# Altium footprint library EISI.PcbLib: 695 footprints (part 38 of 44)
Each footprint in its own frame and in the unit in brackets; x right, y up, seen from the top. Pads: shape width x height; smd on the part's side, far side on the other; paste and mask are expansions set on the pad; w line width, h text height; cw(c..) or ccw(c..) is an arc to the next point about the centre after c.
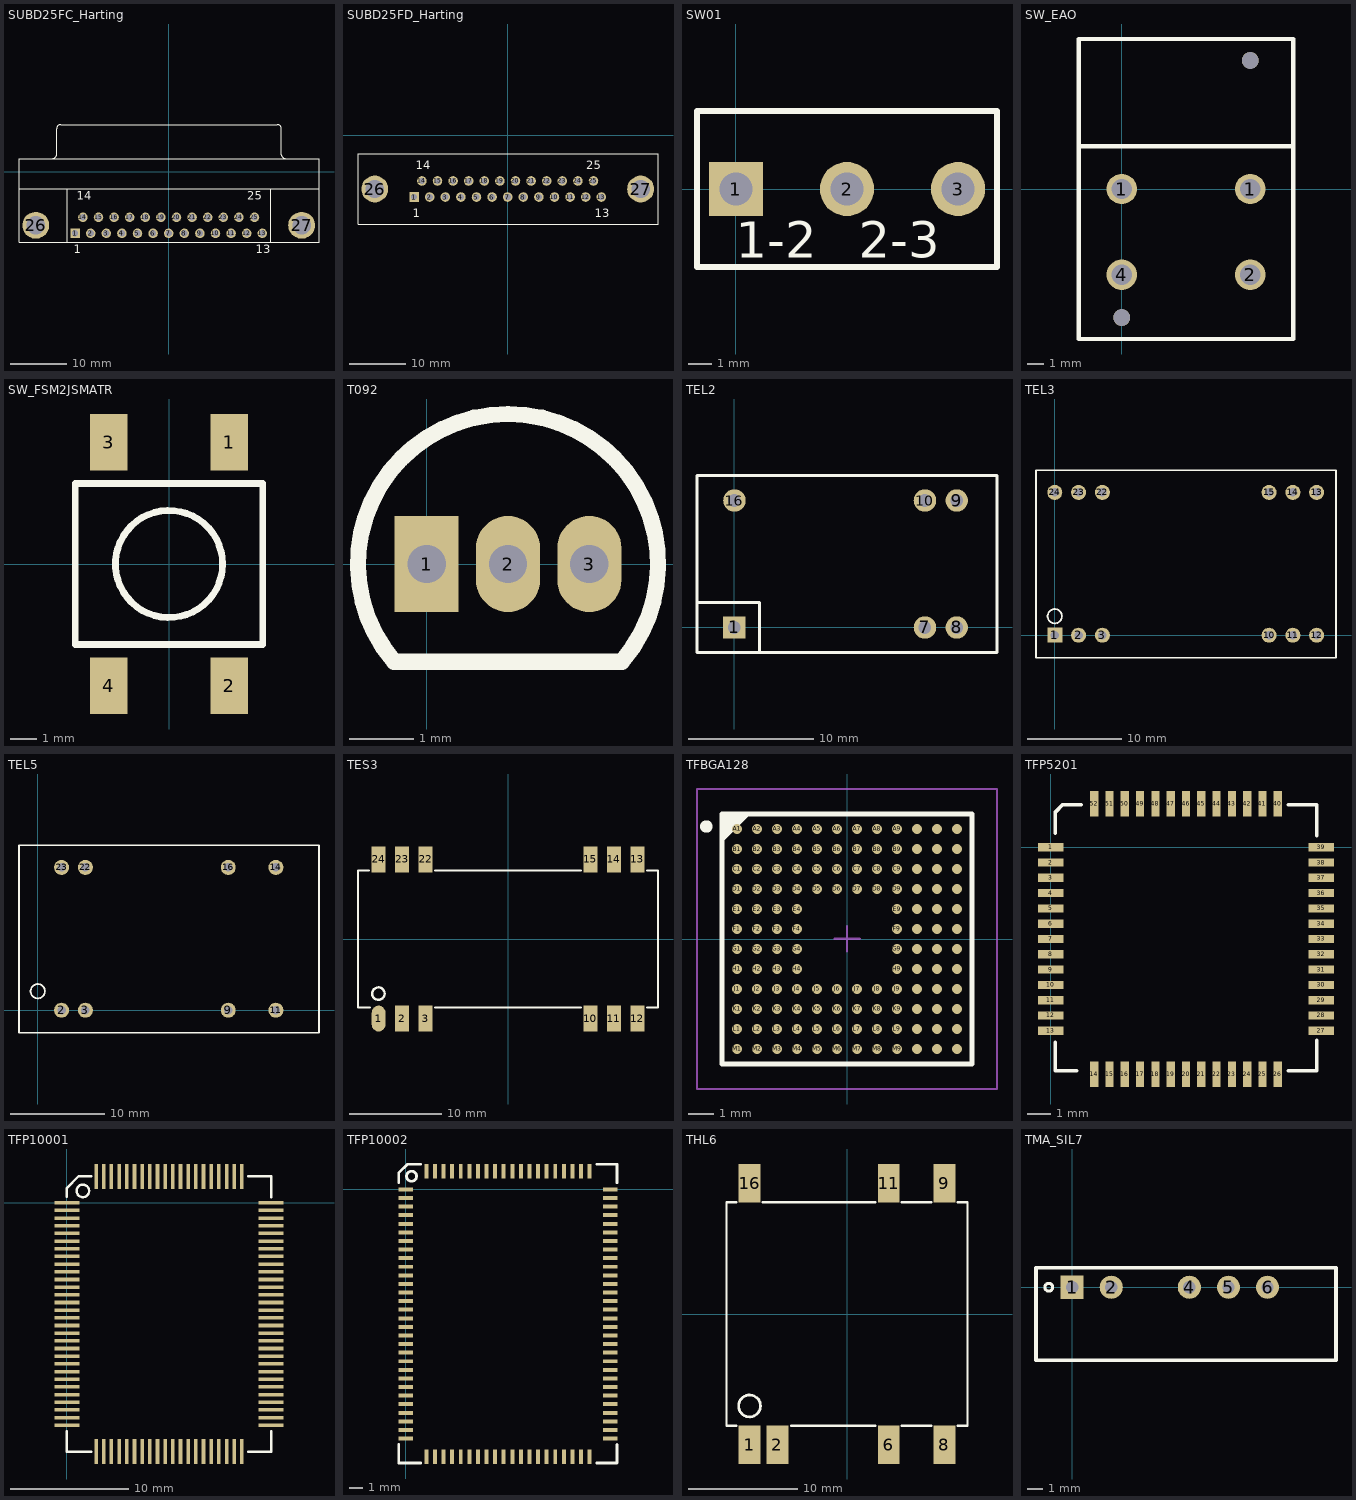
[diagram p37: the footprints below, top view; thin cyan lines are the x and y axes]

## SUBD25FC_Harting [mm] "Connector; D Subminiature; 25 Position; Right Angle; Pitch 1.385 mm"
height 13.6
pads (27):
  rect 1.69x1.69 hole 1.09: 1(-16.566,-10.92)
  round 1.69 hole 1.09: 2(-13.805,-10.92) 3(-11.044,-10.92) 4(-8.283,-10.92) 5(-5.522,-10.92) 6(-2.761,-10.92) 7(0,-10.92) 8(2.761,-10.92) 9(5.522,-10.92) 10(8.283,-10.92) 11(11.044,-10.92) 12(13.805,-10.92) 13(16.566,-10.92) 14(-15.185,-8.08) 15(-12.424,-8.08) 16(-9.663,-8.08) 17(-6.902,-8.08) 18(-4.141,-8.08) 19(-1.38,-8.08) 20(1.381,-8.08) 21(4.142,-8.08) 22(6.903,-8.08) 23(9.664,-8.08) 24(12.425,-8.08) 25(15.186,-8.08)
  round 4.76 hole 3.26: 26(-23.526,-9.5) 27(23.526,-9.5)
TopOverlay:
  lines w0.2: -26.496,-3 26.604,-3 ; -20.541,2.325 ccw(c-20.541,3.02) -19.846,3.02 -19.846,7.625 ; -19.841,7.625 cw(c-19.146,7.625) -19.146,8.32 19.254,8.32 cw(c19.254,7.625) 19.949,7.625 ; -17.946,-12.5 -17.946,-3 ; 18.054,-12.5 18.054,-3 ; 19.954,7.625 19.954,3.02 ccw(c20.649,3.02) 20.649,2.325 ; -26.496,-12.5 26.604,-12.5 26.604,2.32 -26.496,2.32 -26.496,-12.5
  text "1" at -16.816,-14.475 h1.5
  text "13" at 15.441,-14.475 h1.5
  text "14" at -16.31,-4.975 h1.5
  text "25" at 13.936,-4.975 h1.5

## SUBD25FD_Harting [mm] "Connector; D Subminiature; 25 Position; Vertical; Pitch 1.385 mm"
height 13.6
pads (27):
  rect 1.69x1.69 hole 1.09: 1(-16.566,-10.92)
  round 1.69 hole 1.09: 2(-13.805,-10.92) 3(-11.044,-10.92) 4(-8.283,-10.92) 5(-5.522,-10.92) 6(-2.761,-10.92) 7(0,-10.92) 8(2.761,-10.92) 9(5.522,-10.92) 10(8.283,-10.92) 11(11.044,-10.92) 12(13.805,-10.92) 13(16.566,-10.92) 14(-15.185,-8.08) 15(-12.424,-8.08) 16(-9.663,-8.08) 17(-6.902,-8.08) 18(-4.141,-8.08) 19(-1.38,-8.08) 20(1.381,-8.08) 21(4.142,-8.08) 22(6.903,-8.08) 23(9.664,-8.08) 24(12.425,-8.08) 25(15.186,-8.08)
  round 4.76 hole 3.26: 26(-23.526,-9.5) 27(23.526,-9.5)
TopOverlay:
  lines w0.2: -26.496,-15.75 26.604,-15.75 26.604,-3.25 -26.496,-3.25 -26.496,-15.75
  text "1" at -16.816,-14.475 h1.5
  text "13" at 15.441,-14.475 h1.5
  text "14" at -16.3,-6 h1.5
  text "25" at 13.9,-6 h1.5

## SW01 [mm] "Commutateur CK 1101-M2"
pads (3):
  rect 2.3x2.3 hole 1.4: 1(0,0)
  round 2.3 hole 1.4: 2(4.7,0) 3(9.4,0)
TopOverlay:
  lines w0.254: -1.65,-3.3 11.05,-3.3 11.05,3.3 -1.65,3.3 -1.65,-3.3
  text "2-3" at 5.2,-2.9 h1.52
  text "1-2" at 0,-2.9 h1.52

## SW_EAO [mm] "Bouton poussoir EAO"
height 12
pads (6):
  round 1.8 hole 1.2: 1(0,0) 1(7.62,0) 2(7.62,-5.08) 4(0,-5.08)
  round 1 hole 1 unplated: ""(0,-7.62) ""(7.62,7.62)
TopOverlay:
  lines w0.25: -2.54,2.54 10.16,2.54 ; -2.54,-8.89 -2.54,8.89 10.16,8.89 10.16,-8.89 -2.54,-8.89

## SW_FSM2JSMATR [mm] "FSM2JSMATR"
height 4
pads (4):
  rect 1.4x2.1 smd: 1(2.25,4.55) 2(2.25,-4.55) 3(-2.25,4.55) 4(-2.25,-4.55)
TopOverlay:
  circle w0.254: c0,0 r2
  lines w0.254: -3.5,-3 3.5,-3 3.5,3 -3.5,3 -3.5,-3

## T092 [mm]
pads (3):
  rect 1x1.5 hole 0.6: 1(0,0)
  oval 1x1.5 hole 0.6: 2(1.27,0) 3(2.54,0)
TopOverlay:
  lines w0.254: -0.508,-1.524 cw(c1.27,0) 3.048,-1.524 -0.508,-1.524

## TEL2 [mm] "Boîtier TEL 2 DC/DC Traco"
height 7.6
pads (6):
  rect 1.8x1.8 hole 1: 1(0,0)
  round 1.8 hole 1: 7(15.24,0) 8(17.78,0) 9(17.78,10.16) 10(15.24,10.16) 16(0,10.16)
TopOverlay:
  lines w0.254: -3,2 2,2 2,-2 ; -3,-2 -3,12.16 21,12.16 21,-2 -3,-2

## TEL3 [mm] "DC/DC TEL3 dual outputs"
pads (12):
  rect 1.6x1.6 hole 0.9: 1(0,0)
  round 1.6 hole 0.9: 2(2.54,0) 3(5.08,0) 10(22.86,0) 11(25.4,0) 12(27.94,0) 13(27.94,15.24) 14(25.4,15.24) 15(22.86,15.24) 22(5.08,15.24) 23(2.54,15.24) 24(0,15.24)
TopOverlay:
  circle w0.2: c0,2.032 r0.762
  lines w0.2: -2,-2.4 30,-2.4 30,17.6 -2,17.6 -2,-2.4

## TEL5 [mm] "DC/DC TEL5"
height 10
pads (8):
  round 1.6 hole 0.9: 2(2.54,0) 3(5.08,0) 9(20.32,0) 11(25.4,0) 14(25.4,15.24) 16(20.32,15.24) 22(5.08,15.24) 23(2.54,15.24)
TopOverlay:
  circle w0.2: c0,2.032 r0.762
  lines w0.2: -2,-2.4 30,-2.4 30,17.6 -2,17.6 -2,-2.4

## TES3 [mm] "DC/DC Traco 3W SMD"
height 10.2
pads (12):
  oval 1.5x2.8 smd: 1(-13.97,-8.6)
  rect 1.5x2.8 smd: 2(-11.43,-8.6) 3(-8.89,-8.6) 10(8.89,-8.6) 11(11.43,-8.6) 12(13.97,-8.6) 13(13.97,8.6) 14(11.43,8.6) 15(8.89,8.6) 22(-8.89,8.6) 23(-11.43,8.6) 24(-13.97,8.6)
TopOverlay:
  circle w0.254: c-14,-5.9 r0.671
  lines w0.2: -15,7.4 -16.2,7.4 -16.2,-7.4 -14.9,-7.4 ; -7.9,-7.4 7.9,-7.4 ; -7.9,7.4 7.9,7.4 ; 15,-7.4 16.2,-7.4 16.2,7.4 15,7.4

## TFBGA128 [mm] "BGA, 128-Leads, Body 10x10mm, Pitch 0.8mm"
height 1.2
pads (128):
  round 0.4 smd: A1(-4.4,4.4) A2(-3.6,4.4) A3(-2.8,4.4) A4(-2,4.4) A5(-1.2,4.4) A6(-0.4,4.4) A7(0.4,4.4) A8(1.2,4.4) A9(2,4.4) A10(2.8,4.4) A11(3.6,4.4) A12(4.4,4.4) B1(-4.4,3.6) B2(-3.6,3.6) B3(-2.8,3.6) B4(-2,3.6) B5(-1.2,3.6) B6(-0.4,3.6) B7(0.4,3.6) B8(1.2,3.6) B9(2,3.6) B10(2.8,3.6) B11(3.6,3.6) B12(4.4,3.6) C1(-4.4,2.8) C2(-3.6,2.8) C3(-2.8,2.8) C4(-2,2.8) C5(-1.2,2.8) C6(-0.4,2.8) C7(0.4,2.8) C8(1.2,2.8) C9(2,2.8) C10(2.8,2.8) C11(3.6,2.8) C12(4.4,2.8) D1(-4.4,2) D2(-3.6,2) D3(-2.8,2) D4(-2,2) D5(-1.2,2) D6(-0.4,2) D7(0.4,2) D8(1.2,2) D9(2,2) D10(2.8,2) D11(3.6,2) D12(4.4,2) E1(-4.4,1.2) E2(-3.6,1.2) E3(-2.8,1.2) E4(-2,1.2) E9(2,1.2) E10(2.8,1.2) E11(3.6,1.2) E12(4.4,1.2) F1(-4.4,0.4) F2(-3.6,0.4) F3(-2.8,0.4) F4(-2,0.4) F9(2,0.4) F10(2.8,0.4) F11(3.6,0.4) F12(4.4,0.4) G1(-4.4,-0.4) G2(-3.6,-0.4) G3(-2.8,-0.4) G4(-2,-0.4) G9(2,-0.4) G10(2.8,-0.4) G11(3.6,-0.4) G12(4.4,-0.4) H1(-4.4,-1.2) H2(-3.6,-1.2) H3(-2.8,-1.2) H4(-2,-1.2) H9(2,-1.2) H10(2.8,-1.2) H11(3.6,-1.2) H12(4.4,-1.2) J1(-4.4,-2) J2(-3.6,-2) J3(-2.8,-2) J4(-2,-2) J5(-1.2,-2) J6(-0.4,-2) J7(0.4,-2) J8(1.2,-2) J9(2,-2) J10(2.8,-2) J11(3.6,-2) J12(4.4,-2) K1(-4.4,-2.8) K2(-3.6,-2.8) K3(-2.8,-2.8) K4(-2,-2.8) K5(-1.2,-2.8) K6(-0.4,-2.8) K7(0.4,-2.8) K8(1.2,-2.8) K9(2,-2.8) K10(2.8,-2.8) K11(3.6,-2.8) K12(4.4,-2.8) L1(-4.4,-3.6) L2(-3.6,-3.6) L3(-2.8,-3.6) L4(-2,-3.6) L5(-1.2,-3.6) L6(-0.4,-3.6) L7(0.4,-3.6) L8(1.2,-3.6) L9(2,-3.6) L10(2.8,-3.6) L11(3.6,-3.6) L12(4.4,-3.6) M1(-4.4,-4.4) M2(-3.6,-4.4) M3(-2.8,-4.4) M4(-2,-4.4) M5(-1.2,-4.4) M6(-0.4,-4.4) M7(0.4,-4.4) M8(1.2,-4.4) M9(2,-4.4) M10(2.8,-4.4) M11(3.6,-4.4) M12(4.4,-4.4)
TopOverlay:
  circle w0.25: c-5.625,4.5 r0.125
  region: -4,5 -5,4 -5,5
  lines w0.2: -5,4 -4,5 ; -5,-5 -5,5 5,5 5,-5 -5,-5
Mechanical15:
  lines w0.1: -0.5,0 0.5,0 ; 0,-0.5 0,0.5 ; -6,-6 -6,6 6,6 6,-6 -6,-6

## TFP5201 [mm]
pads (52):
  rect 1.1x0.35 smd: 1(0,0) 2(0,-0.65) 3(0,-1.3) 4(0,-1.95) 5(0,-2.6) 6(0,-3.25) 7(0,-3.9) 8(0,-4.55) 9(0,-5.2) 10(0,-5.85) 11(0,-6.5) 12(0,-7.15) 13(0,-7.8) 27(11.5,-7.8) 28(11.5,-7.15) 29(11.5,-6.5) 30(11.5,-5.85) 31(11.5,-5.2) 32(11.5,-4.55) 33(11.5,-3.9) 34(11.5,-3.25) 35(11.5,-2.6) 36(11.5,-1.95) 37(11.5,-1.3) 38(11.5,-0.65) 39(11.5,0)
  rect 0.35x1.1 smd: 14(1.85,-9.65) 15(2.5,-9.65) 16(3.15,-9.65) 17(3.8,-9.65) 18(4.45,-9.65) 19(5.1,-9.65) 20(5.75,-9.65) 21(6.4,-9.65) 22(7.05,-9.65) 23(7.7,-9.65) 24(8.35,-9.65) 25(9,-9.65) 26(9.65,-9.65) 40(9.65,1.85) 41(9,1.85) 42(8.35,1.85) 43(7.7,1.85) 44(7.05,1.85) 45(6.4,1.85) 46(5.75,1.85) 47(5.1,1.85) 48(4.45,1.85) 49(3.8,1.85) 50(3.15,1.85) 51(2.5,1.85) 52(1.85,1.85)
TopOverlay:
  lines w0.152: 0.2,-8.3 0.2,-9.5 1.1,-9.5 ; 0.2,0.6 0.2,1.5 0.5,1.8 1.3,1.8 ; 10.1,-9.5 11.3,-9.5 11.3,-8.2 ; 10.1,1.8 11.3,1.8 11.3,0.5
TopSolder:
  rectangle: 1.6,1.225 9.9,2.475
  rectangle: 1.6,-10.275 9.9,-9.025
  rectangle: 10.875,-8.05 12.125,0.25
  rectangle: -0.625,-8.05 0.625,0.25

## TFP10001 [mil]
pads (100):
  rect 83x12 smd: 1(0,0) 2(0,-25.59) 3(0,-51.18) 4(0,-76.77) 5(0,-102.36) 6(0,-127.95) 7(0,-153.54) 8(0,-179.13) 9(0,-204.72) 10(0,-230.31) 11(0,-255.91) 12(0,-281.5) 13(0,-307.09) 14(0,-332.68) 15(0,-358.27) 16(0,-383.86) 17(0,-409.45) 18(0,-435.04) 19(0,-460.63) 20(0,-486.22) 21(0,-511.81) 22(0,-537.4) 23(0,-562.99) 24(0,-588.58) 25(0,-614.17) 26(0,-639.76) 27(0,-665.35) 28(0,-690.94) 29(0,-716.54) 30(0,-742.13) 51(681.1,-742.13) 52(681.1,-716.54) 53(681.1,-690.94) 54(681.1,-665.35) 55(681.1,-639.76) 56(681.1,-614.17) 57(681.1,-588.58) 58(681.1,-562.99) 59(681.1,-537.4) 60(681.1,-511.81) 61(681.1,-486.22) 62(681.1,-460.63) 63(681.1,-435.04) 64(681.1,-409.45) 65(681.1,-383.86) 66(681.1,-358.27) 67(681.1,-332.68) 68(681.1,-307.09) 69(681.1,-281.5) 70(681.1,-255.91) 71(681.1,-230.31) 72(681.1,-204.72) 73(681.1,-179.13) 74(681.1,-153.54) 75(681.1,-127.95) 76(681.1,-102.36) 77(681.1,-76.77) 78(681.1,-51.18) 79(681.1,-25.59) 80(681.1,0)
  rect 12x83 smd: 31(97.44,-829.72) 32(123.03,-829.72) 33(148.62,-829.72) 34(174.21,-829.72) 35(199.8,-829.72) 36(225.39,-829.72) 37(250.98,-829.72) 38(276.57,-829.72) 39(302.17,-829.72) 40(327.76,-829.72) 41(353.35,-829.72) 42(378.94,-829.72) 43(404.53,-829.72) 44(430.12,-829.72) 45(455.71,-829.72) 46(481.3,-829.72) 47(506.89,-829.72) 48(532.48,-829.72) 49(558.07,-829.72) 50(583.66,-829.72) 81(583.66,87.6) 82(558.07,87.6) 83(532.48,87.6) 84(506.89,87.6) 85(481.3,87.6) 86(455.71,87.6) 87(430.12,87.6) 88(404.53,87.6) 89(378.94,87.6) 90(353.35,87.6) 91(327.76,87.6) 92(302.17,87.6) 93(276.57,87.6) 94(250.98,87.6) 95(225.39,87.6) 96(199.8,87.6) 97(174.21,87.6) 98(148.62,87.6) 99(123.03,87.6) 100(97.44,87.6)
TopOverlay:
  circle w8: c53.15,39.37 r20.93
  lines w7.87: 0,-762 0,-830.71 80.71,-830.71 ; 0,19.68 0,49.21 39.37,88.58 80.71,88.58 ; 604.33,-830.71 681.1,-830.71 681.1,-761.81 ; 604.33,88.58 681.1,88.58 681.1,17.72

## TFP10002 [mm]
pads (100):
  rect 1.1x0.3 smd: 1(0,0) 2(0,-0.65) 3(0,-1.3) 4(0,-1.95) 5(0,-2.6) 6(0,-3.25) 7(0,-3.9) 8(0,-4.55) 9(0,-5.2) 10(0,-5.85) 11(0,-6.5) 12(0,-7.15) 13(0,-7.8) 14(0,-8.45) 15(0,-9.1) 16(0,-9.75) 17(0,-10.4) 18(0,-11.05) 19(0,-11.7) 20(0,-12.35) 21(0,-13) 22(0,-13.65) 23(0,-14.3) 24(0,-14.95) 25(0,-15.6) 26(0,-16.25) 27(0,-16.9) 28(0,-17.55) 29(0,-18.2) 30(0,-18.85) 51(15.5,-18.85) 52(15.5,-18.2) 53(15.5,-17.55) 54(15.5,-16.9) 55(15.5,-16.25) 56(15.5,-15.6) 57(15.5,-14.95) 58(15.5,-14.3) 59(15.5,-13.65) 60(15.5,-13) 61(15.5,-12.35) 62(15.5,-11.7) 63(15.5,-11.05) 64(15.5,-10.4) 65(15.5,-9.75) 66(15.5,-9.1) 67(15.5,-8.45) 68(15.5,-7.8) 69(15.5,-7.15) 70(15.5,-6.5) 71(15.5,-5.85) 72(15.5,-5.2) 73(15.5,-4.55) 74(15.5,-3.9) 75(15.5,-3.25) 76(15.5,-2.6) 77(15.5,-1.95) 78(15.5,-1.3) 79(15.5,-0.65) 80(15.5,0)
  rect 0.3x1.1 smd: 31(1.575,-20.225) 32(2.225,-20.225) 33(2.875,-20.225) 34(3.525,-20.225) 35(4.175,-20.225) 36(4.825,-20.225) 37(5.475,-20.225) 38(6.125,-20.225) 39(6.775,-20.225) 40(7.425,-20.225) 41(8.075,-20.225) 42(8.725,-20.225) 43(9.375,-20.225) 44(10.025,-20.225) 45(10.675,-20.225) 46(11.325,-20.225) 47(11.975,-20.225) 48(12.625,-20.225) 49(13.275,-20.225) 50(13.925,-20.225) 81(13.925,1.375) 82(13.275,1.375) 83(12.625,1.375) 84(11.975,1.375) 85(11.325,1.375) 86(10.675,1.375) 87(10.025,1.375) 88(9.375,1.375) 89(8.725,1.375) 90(8.075,1.375) 91(7.425,1.375) 92(6.775,1.375) 93(6.125,1.375) 94(5.475,1.375) 95(4.825,1.375) 96(4.175,1.375) 97(3.525,1.375) 98(2.875,1.375) 99(2.225,1.375) 100(1.575,1.375)
TopOverlay:
  circle w0.203: c0.45,1 r0.381
  lines w0.2: -0.508,-19.304 -0.508,-20.701 1.143,-20.701 ; -0.508,0.508 -0.508,1.27 0.127,1.905 1.143,1.905 ; 14.478,-20.701 16.002,-20.701 16.002,-19.304 ; 14.478,1.905 16.002,1.905 16.002,0.508

## THL6 [mm] "Traco THL6 DC/DC Converter"
height 10.05
pads (7):
  rect 2x3.5 smd: 1(-8.89,-11.95) 2(-6.35,-11.95) 6(3.81,-11.95) 8(8.89,-11.95) 9(8.89,11.95) 11(3.81,11.95) 16(-8.89,11.95)
TopOverlay:
  circle w0.254: c-8.9,-8.4 r1
  lines w0.2: -10.1,-10.2 -11,-10.2 -11,10.2 -10.1,10.2 ; -7.7,10.2 2.6,10.2 ; -5.1,-10.2 2.6,-10.2 ; 5,-10.2 7.7,-10.2 ; 5,10.2 7.7,10.2 ; 10.1,-10.2 11,-10.2 11,10.2 10.1,10.2

## TMA_SIL7 [mm]
height 10
pads (5):
  rect 1.5x1.5 hole 0.8: 1(0,0)
  round 1.5 hole 0.8: 2(2.54,0) 4(7.62,0) 5(10.16,0) 6(12.7,0)
TopOverlay:
  circle w0.2: c-1.524,0 r0.254
  lines w0.25: -2.35,-4.75 17.15,-4.75 17.15,1.27 -2.35,1.27 -2.35,-4.75